# Altium schematic symbol library SS26FL.SchLib: 1 symbol
Pins are listed as number, name and electrical type; pins without a type are passive.

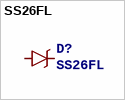
[diagram p0: symbol SS26FL]

## SS26FL
designator D?
PROD_ID: SS26FL
footprint SS26FL
pins: A, C